# Altium integrated library SparkFun-RF.Library.IntLib: 74 symbols (part 2 of 2)
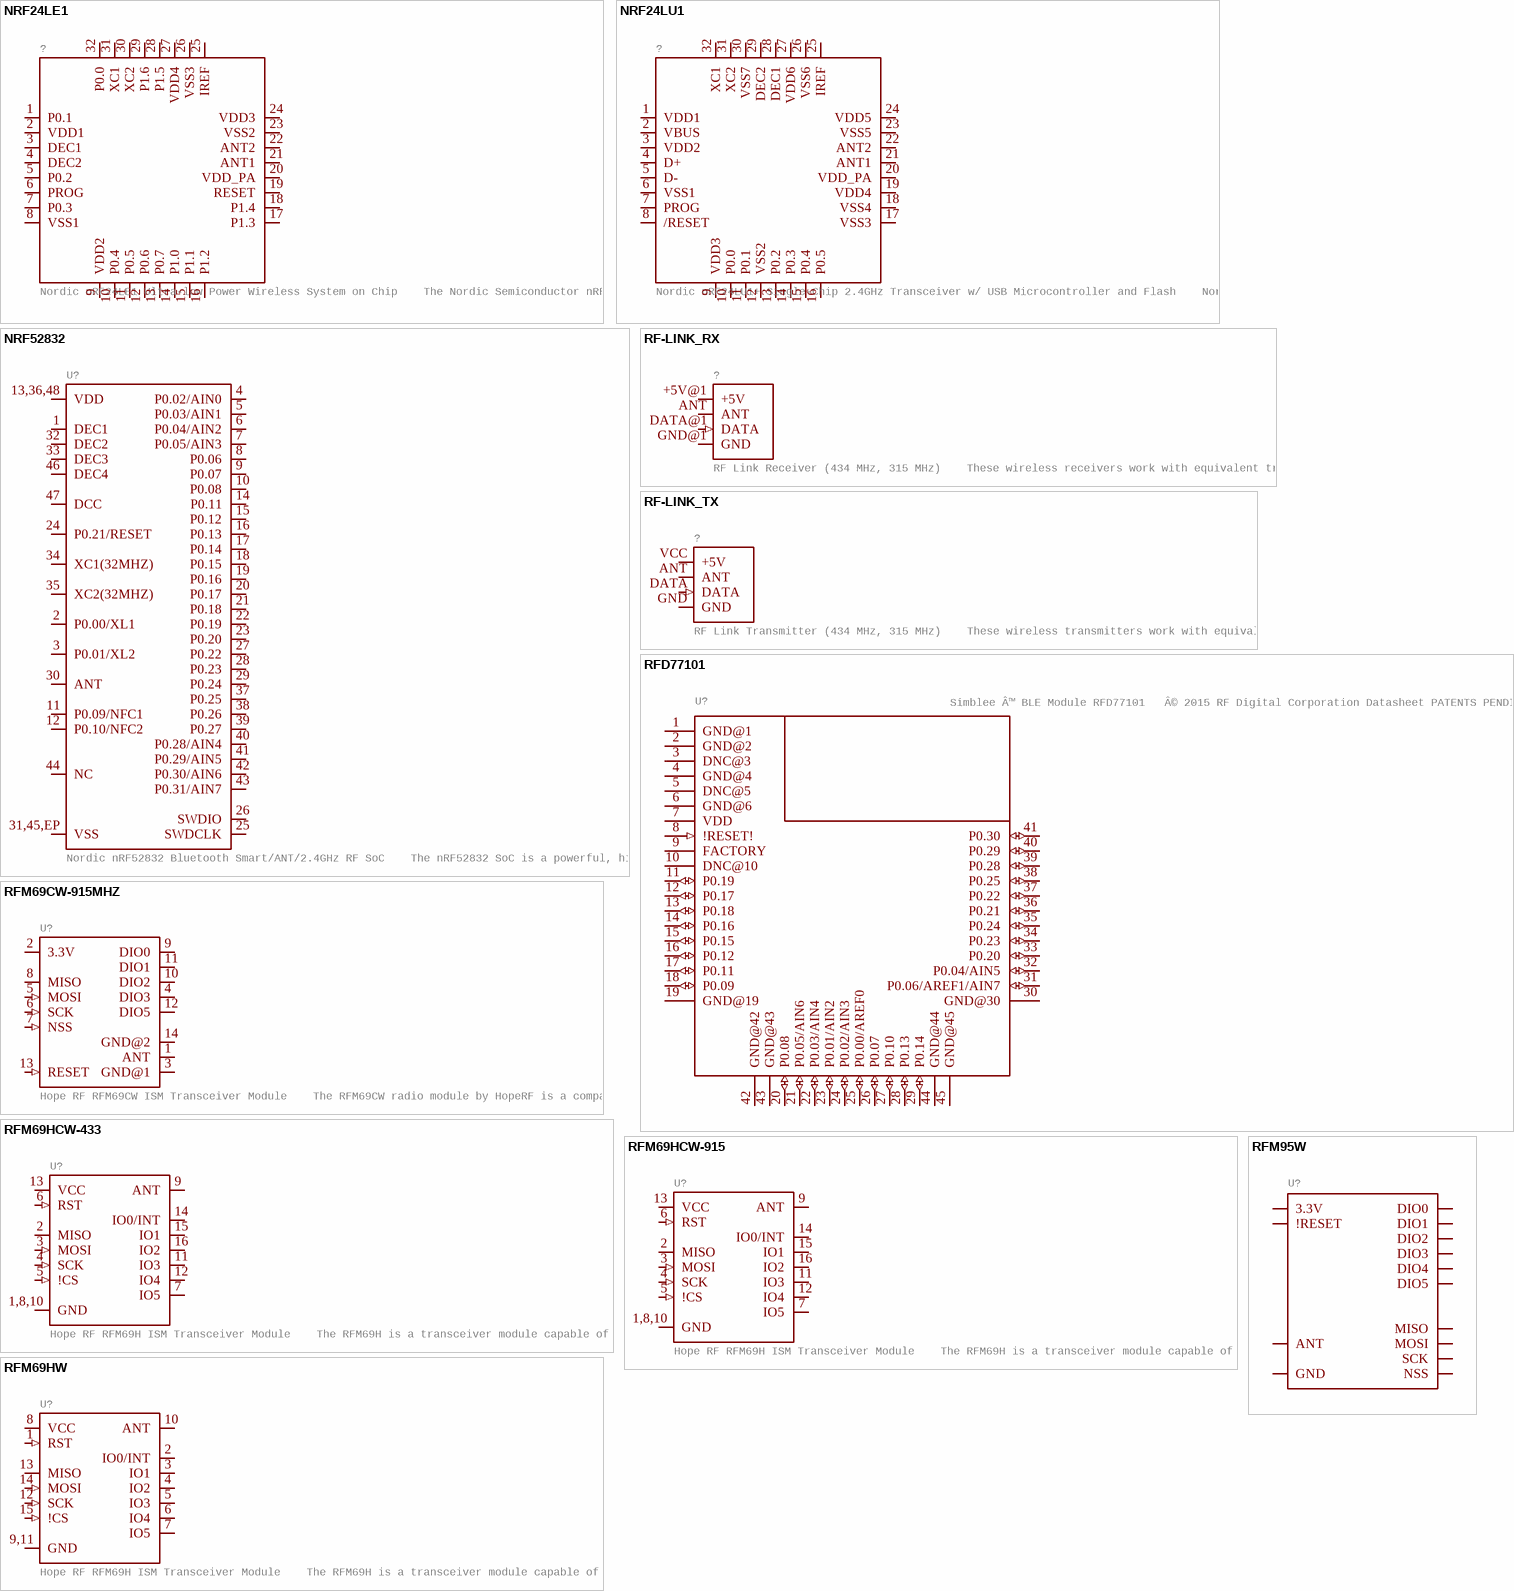
[diagram p8: symbols NRF24LE1 to RFM95W]

## RFD77101
designator U?, comment Simblee Â™ BLE Module RFD77101   Â© 2015 RF Digital Corporation Datasheet PATENTS PENDING 04.01.2015   Bluetooth Smart radio transceiver, ARM Cortex M0 microcontroller.   128kB Flash, 24kB RAM, no EEPROM   Arduino-compatible.    SparkFun Products: Simblee BLE Module - RFD77101  SparkFun Simblee BLE Breakout - RFD77101
GateName_1: G$1; PROD_ID: COMP-13237; SF_ID: WRL-13808; SymbolName_1: RFD77101; LibraryName: SparkFun-RF; DeviceSetName: RFD77101; Package: RFD77101
footprint RFD77101
pins: 1 GND@1 (power), 2 GND@2 (power), 3 DNC@3, 4 GND@4 (power), 5 DNC@5, 6 GND@6 (power), 7 VDD (power), 8 !RESET! (in), 9 FACTORY, 10 DNC@10, 11 P0.19 (io), 12 P0.17 (io), 13 P0.18 (io), 14 P0.16 (io), 15 P0.15 (io), 16 P0.12 (io), 17 P0.11 (io), 18 P0.09 (io), 19 GND@19 (power), 20 P0.08 (io), 21 P0.05/AIN6 (io), 22 P0.03/AIN4 (io), 23 P0.01/AIN2 (io), 24 P0.02/AIN3 (io), 25 P0.00/AREF0 (io), 26 P0.07 (io), 27 P0.10 (io), 28 P0.13 (io), 29 P0.14 (io), 30 GND@30 (power), 31 P0.06/AREF1/AIN7 (io), 32 P0.04/AIN5 (io), 33 P0.20 (io), 34 P0.23 (io), 35 P0.24 (io), 36 P0.21 (io), 37 P0.22 (io), 38 P0.25 (io), 39 P0.28 (io), 40 P0.29 (io), 41 P0.30 (io), 42 GND@42 (power), 43 GND@43 (power), 44 GND@44 (power), 45 GND@45 (power)

## RFM69CW-915MHZ
designator U?, comment Hope RF RFM69CW ISM Transceiver Module    The RFM69CW radio module by HopeRF is a compact, powerful radio transceiver module for swapping data packets in the 868 MHz ISM band, using standard and enhanced FSK modulation. The radio is great for sub-compact designs; just 4mm of mounted height from using an SMD precision crystal.   Datasheet
GateName_1: G$1; SymbolName_1: RFM69; DeviceName: CW-915MHZ; PROD_ID: IC-11996; LibraryName: SparkFun-RF; DeviceSetName: RFM69; Package: RFM69CW-XXXS2
footprint RFM69CW-XXXS2
pins: 1 ANT, 2 3.3V (power), 3 GND@1 (power), 4 DIO3 (io), 5 MOSI (in), 6 SCK (in), 7 NSS (in), 8 MISO (io), 9 DIO0 (io), 10 DIO2 (io), 11 DIO1 (io), 12 DIO5 (io), 13 RESET (in), 14 GND@2 (power)

## RFM69HCW-433
designator U?, comment Hope RF RFM69H ISM Transceiver Module    The RFM69H is a transceiver module capable of operation over a wide frequency range, including the 315,433,868 and 915MHz license-free ISM (Industry Scientific and Medical) frequency bands. All major RF communication parameters are programmable and most of them  can  be  dynamically set.  The  RFM69H  offers  the unique advantage of programmable narrow-band and wide- band  communication modes. The RFM69H is optimized for low power consumption while offering high RF output power and channelized operation.Compliance  ETSI and FCC regulations.    Datasheet   SparkFun Products RFM69HCW Wireless Transceiver - 915MHz (COM-13909)  RFM69HCW Wireless Transceiver - 434MHz (COM-13910)  SparkFun RFM69 Breakout (915MHz) (WRL-12775)  SparkFun RFM69 Breakout (434MHz) (WRL-12823)
GateName_1: U1; DeviceName: CW-433; PROD_ID: IC-12053; SymbolName_1: RFM69H; LibraryName: SparkFun-RF; DeviceSetName: RFM69H; Package: RFM69HCW-XXXS2
footprint RFM69HCW-XXXS2
pins: 1,8,10 GND (power), 2 MISO (io), 3 MOSI (in), 4 SCK (in), 5 !CS (in), 6 RST (in), 7 IO5 (io), 9 ANT, 11 IO3 (io), 12 IO4 (io), 13 VCC (power), 14 IO0/INT (io), 15 IO1 (io), 16 IO2 (io)

## RFM69HCW-915
designator U?, comment Hope RF RFM69H ISM Transceiver Module    The RFM69H is a transceiver module capable of operation over a wide frequency range, including the 315,433,868 and 915MHz license-free ISM (Industry Scientific and Medical) frequency bands. All major RF communication parameters are programmable and most of them  can  be  dynamically set.  The  RFM69H  offers  the unique advantage of programmable narrow-band and wide- band  communication modes. The RFM69H is optimized for low power consumption while offering high RF output power and channelized operation.Compliance  ETSI and FCC regulations.    Datasheet   SparkFun Products RFM69HCW Wireless Transceiver - 915MHz (COM-13909)  RFM69HCW Wireless Transceiver - 434MHz (COM-13910)  SparkFun RFM69 Breakout (915MHz) (WRL-12775)  SparkFun RFM69 Breakout (434MHz) (WRL-12823)
GateName_1: U1; DeviceName: CW-915; PROD_ID: IC-11997; SymbolName_1: RFM69H; LibraryName: SparkFun-RF; DeviceSetName: RFM69H; Package: RFM69HCW-XXXS2
footprint RFM69HCW-XXXS2
pins: 1,8,10 GND (power), 2 MISO (io), 3 MOSI (in), 4 SCK (in), 5 !CS (in), 6 RST (in), 7 IO5 (io), 9 ANT, 11 IO3 (io), 12 IO4 (io), 13 VCC (power), 14 IO0/INT (io), 15 IO1 (io), 16 IO2 (io)

## RFM69HW
designator U?, comment Hope RF RFM69H ISM Transceiver Module    The RFM69H is a transceiver module capable of operation over a wide frequency range, including the 315,433,868 and 915MHz license-free ISM (Industry Scientific and Medical) frequency bands. All major RF communication parameters are programmable and most of them  can  be  dynamically set.  The  RFM69H  offers  the unique advantage of programmable narrow-band and wide- band  communication modes. The RFM69H is optimized for low power consumption while offering high RF output power and channelized operation.Compliance  ETSI and FCC regulations.    Datasheet   SparkFun Products RFM69HCW Wireless Transceiver - 915MHz (COM-13909)  RFM69HCW Wireless Transceiver - 434MHz (COM-13910)  SparkFun RFM69 Breakout (915MHz) (WRL-12775)  SparkFun RFM69 Breakout (434MHz) (WRL-12823)
GateName_1: U1; DeviceName: W; SymbolName_1: RFM69H; LibraryName: SparkFun-RF; DeviceSetName: RFM69H; Package: RFM69W-XXXS2
footprint RFM69W-XXXS2
pins: 1 RST (in), 2 IO0/INT (io), 3 IO1 (io), 4 IO2 (io), 5 IO3 (io), 6 IO4 (io), 7 IO5 (io), 8 VCC (power), 9,11 GND (power), 10 ANT, 12 SCK (in), 13 MISO (io), 14 MOSI (in), 15 !CS (in)

## RFM95W
designator U?, comment RFM95/96/97/98    The RFM95/96/97/98(W) transceivers feature the LoRaTM    long range modem that provides ultra-long range spread spectrum communication and high interference immunity whilst minimising current consumption.    These devices also support high performance (G)FSK modes for systems including WMBus, IEEE802.15.4g. The RFM95/96/97/98(W) deliver exceptional phase noise, selectivity, receiver linearity and IIP3 for significantly lower current consumption than competing devices   Datasheet  (value not drawn)
GateName_1: G$1; SymbolName_1: RFM95W; PROD_ID: IC-13959; LibraryName: SparkFun-RF; DeviceSetName: RFM95W; Package: RFM95/96/97/98W
footprint RFM95/96/97/98W
pins: 3.3V (io), !RESET (io), ANT (io), DIO0 (io), DIO1 (io), DIO2 (io), DIO3 (io), DIO4 (io), DIO5 (io), GND@1-3 GND (io), MISO (io), MOSI (io), NSS (io), SCK (io)

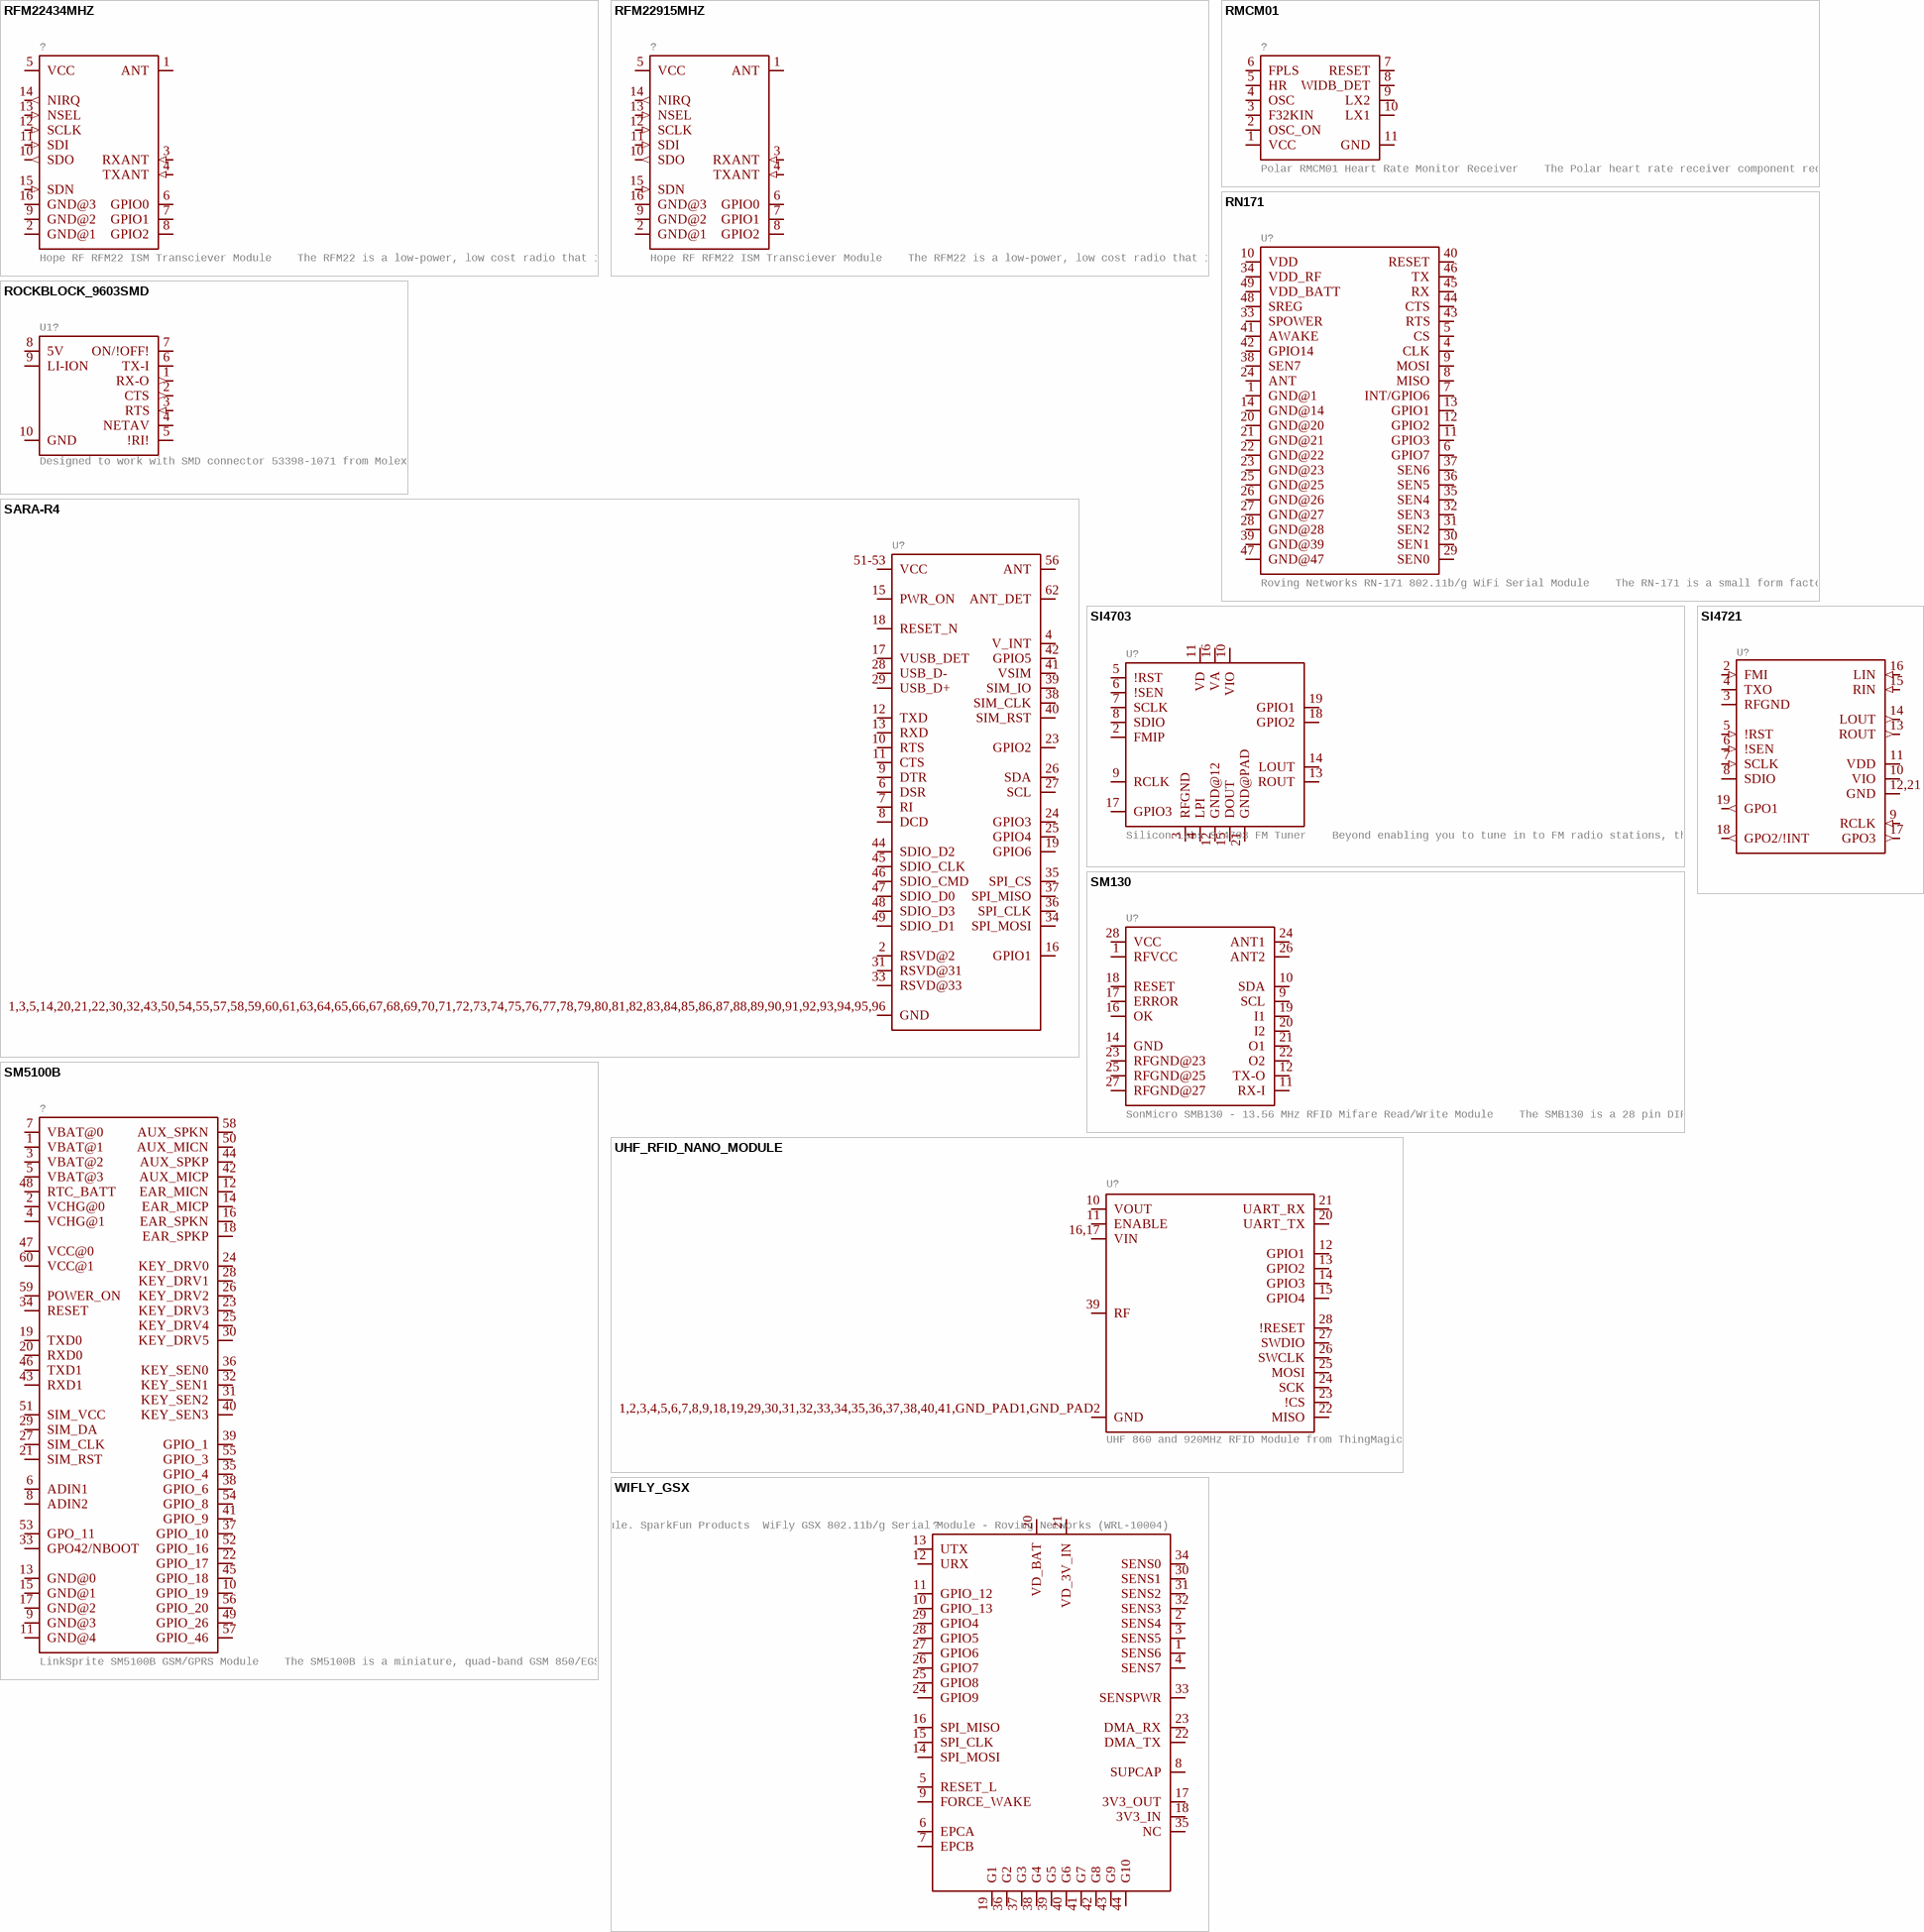
[diagram p6: symbols RFM22434MHZ to WIFLY_GSX]

## RFM22434MHZ
designator ?, comment Hope RF RFM22 ISM Transciever Module    The RFM22 is a low-power, low cost radio that is capable of operating in the 434MHz and 900MHz open bands. It's frequency is software defined and there are some very good libraries written for it.   SparkFun Products SparkFun RFM22 Shield - 434MHz (DEV-11018)
GateName_1: G$1; PROD_ID: IC-10007; SF_ID: WRL-10153; SymbolName_1: RFM22; DeviceName: 434MHZ; LibraryName: SparkFun-RF; DeviceSetName: RFM22; Package: RFM22-XXX-S2
footprint RFM22-XXX-S2
pins: 1 ANT (io), 2 GND@1 (power), 3 RXANT (in), 4 TXANT (in), 5 VCC (io), 6 GPIO0 (io), 7 GPIO1 (io), 8 GPIO2 (io), 9 GND@2 (power), 10 SDO (out), 11 SDI (in), 12 SCLK (in), 13 NSEL (in), 14 NIRQ (out), 15 SDN (in), 16 GND@3 (power)

## RFM22915MHZ
designator ?, comment Hope RF RFM22 ISM Transciever Module    The RFM22 is a low-power, low cost radio that is capable of operating in the 434MHz and 900MHz open bands. It's frequency is software defined and there are some very good libraries written for it.   SparkFun Products SparkFun RFM22 Shield - 434MHz (DEV-11018)
GateName_1: G$1; DeviceName: 915MHZ; PROD_ID: IC-11750; SF_ID: WRL-12030; SymbolName_1: RFM22; LibraryName: SparkFun-RF; DeviceSetName: RFM22; Package: RFM22-XXX-S2
footprint RFM22-XXX-S2
pins: 1 ANT (io), 2 GND@1 (power), 3 RXANT (in), 4 TXANT (in), 5 VCC (io), 6 GPIO0 (io), 7 GPIO1 (io), 8 GPIO2 (io), 9 GND@2 (power), 10 SDO (out), 11 SDI (in), 12 SCLK (in), 13 NSEL (in), 14 NIRQ (out), 15 SDN (in), 16 GND@3 (power)

## RMCM01
designator ?, comment Polar RMCM01 Heart Rate Monitor Receiver    The Polar heart rate receiver component receiver wirelessly receives the heart rate signal from Polar transmitter belt. The complete heart rate measurement system consists of three different parts; transmitter, receiver and electronics and/or display device that is outputting the heart rate value.   SparkFun Products Polar Heart Rate Monitor Interface (SEN-08661)
GateName_1: G$1; PROD_ID: COMP-08853; SymbolName_1: RMCM01; LibraryName: SparkFun-RF; DeviceSetName: RMCM01; Package: RMCM01
footprint RMCM01
pins: 1 VCC (io), 2 OSC_ON (io), 3 F32KIN (io), 4 OSC (io), 5 HR (io), 6 FPLS (io), 7 RESET (io), 8 WIDB_DET (io), 9 LX2 (io), 10 LX1 (io), 11 GND (io)

## RN171
designator U?, comment Roving Networks RN-171 802.11b/g WiFi Serial Module    The RN-171 is a small form factor, ultra-low power embedded TCP/IP module. The RN-171 is a standalone, complete TCP/IP wireless networking module. Due to its small form factor and extremely low power consumption, it is perfect for mobile wireless applications such as asset monitoring, sensors, and portable battery operated devices.   SparkFun Products WiFly RN-171 802.11b/g Serial Module (WRL-11049)
GateName_1: G$1; SymbolName_1: RN171; PROD_ID: IC-11000; LibraryName: SparkFun-RF; DeviceSetName: RN171; Package: RN171; SF_ID: WRL-11049
footprint RN171
pins: 1 GND@1 (io), 4 CLK (io), 5 CS (io), 6 GPIO7 (io), 7 INT/GPIO6 (io), 8 MISO (io), 9 MOSI (io), 10 VDD (io), 11 GPIO3 (io), 12 GPIO2 (io), 13 GPIO1 (io), 14 GND@14 (io), 20 GND@20 (io), 21 GND@21 (io), 22 GND@22 (io), 23 GND@23 (io), 24 ANT (io), 25 GND@25 (io), 26 GND@26 (io), 27 GND@27 (io), 28 GND@28 (io), 29 SEN0 (io), 30 SEN1 (io), 31 SEN2 (io), 32 SEN3 (io), 33 SPOWER (io), 34 VDD_RF (io), 35 SEN4 (io), 36 SEN5 (io), 37 SEN6 (io), 38 SEN7 (io), 39 GND@39 (io), 40 RESET (io), 41 AWAKE (io), 42 GPIO14 (io), 43 RTS (io), 44 CTS (io), 45 RX (io), 46 TX (io), 47 GND@47 (io), 48 SREG (io), 49 VDD_BATT (io)

## ROCKBLOCK_9603SMD
designator U1?, comment Designed to work with SMD connector 53398-1071 from Molex.
GateName_1: U1; SymbolName_1: ROCKBLOCK_9603; PROD_ID: CONN-14655; DeviceName: SMD; LibraryName: SparkFun-RF; DeviceSetName: ROCKBLOCK_9603; Package: 1X10-1.25MM-SMD
footprint 1X10-1.25MM-SMD
pins: 1 RX-O (out), 2 CTS (out), 3 RTS (in), 4 NETAV (io), 5 !RI! (io), 6 TX-I (io), 7 ON/!OFF! (io), 8 5V (io), 9 LI-ION (io), 10 GND (io)

## SARA-R4
designator U?
GateName_1: G$1; SymbolName_1: SARA-R4; PROD_ID: IC-14085; LibraryName: SparkFun-RF; DeviceSetName: SARA-R4; Package: SARA-LGA
footprint SARA-LGA
pins: 1,3,5,14,20,21,22,30,32,43,50,54,55,57,58,59,60,61,63,64,65,66,67,68,69,70,71,72,73,74,75,76,77,78,79,80,81,82,83,84,85,86,87,88,89,90,91,92,93,94,95,96 GND (io), 2 RSVD@2 (io), 4 V_INT (io), 6 DSR (io), 7 RI (io), 8 DCD (io), 9 DTR (io), 10 RTS (io), 11 CTS (io), 12 TXD (io), 13 RXD (io), 15 PWR_ON (io), 16 GPIO1 (io), 17 VUSB_DET (io), 18 RESET_N (io), 19 GPIO6 (io), 23 GPIO2 (io), 24 GPIO3 (io), 25 GPIO4 (io), 26 SDA (io), 27 SCL (io), 28 USB_D- (io), 29 USB_D+ (io), 31 RSVD@31 (io), 33 RSVD@33 (io), 34 SPI_MOSI (io), 35 SPI_CS (io), 36 SPI_CLK (io), 37 SPI_MISO (io), 38 SIM_CLK (io), 39 SIM_IO (io), 40 SIM_RST (io), 41 VSIM (io), 42 GPIO5 (io), 44 SDIO_D2 (io), 45 SDIO_CLK (io), 46 SDIO_CMD (io), 47 SDIO_D0 (io), 48 SDIO_D3 (io), 49 SDIO_D1 (io), 51-53 VCC (io), 56 ANT (io), 62 ANT_DET (io)

## SI4703
designator U?, comment Silicon Labs Si4703 FM Tuner    Beyond enabling you to tune in to FM radio stations, the Si4703 is also capable of detecting and processing both Radio Data Service (RDS) and Radio Broadcast Data Service (RBDS) information. The Si4703 even does a very good job of filtering and carrier detection. It also enables data such as the station ID and song name to be displayed to the user.   SparkFun Products SparkFun FM Tuner Evaluation Board - Si4703 (WRL-12938)  SparkFun FM Tuner Basic Breakout - Si4703 (WRL-11083)  FabFM Radio Kit  (KIT-11043)
GateName_1: G$1; SymbolName_1: SI470X; PROD_ID: IC-10150; LibraryName: SparkFun-RF; DeviceSetName: SI4703; Package: QFN-20-3X3MM
footprint QFN-20-3X3MM
pins: 2 FMIP (io), 3 RFGND (io), 4 LPI (io), 5 !RST (io), 6 !SEN (io), 7 SCLK (io), 8 SDIO (io), 9 RCLK (io), 10 VIO (io), 11 VD (io), 12 GND@12 (io), 13 ROUT (io), 14 LOUT (io), 15 DOUT (io), 16 VA (io), 17 GPIO3 (io), 18 GPIO2 (io), 19 GPIO1 (io), 21 GND@PAD (io)

## SI4721
designator U?
GateName_1: G$1; SymbolName_1: SI472X; DeviceSetName: SI4721; LibraryName: SparkFun-RF; Package: QFN-20-3X3MM
footprint QFN-20-3X3MM
pins: 2 FMI (in), 3 RFGND (power), 4 TXO (io), 5 !RST (in), 6 !SEN (in), 7 SCLK (in), 8 SDIO (io), 9 RCLK (in), 10 VIO (power), 11 VDD (power), 12,21 GND (power), 13 ROUT (out), 14 LOUT (out), 15 RIN (in), 16 LIN (in), 17 GPO3 (out), 18 GPO2/!INT (out), 19 GPO1 (out)

## SM130
designator U?, comment SonMicro SMB130 - 13.56 MHz RFID Mifare Read/Write Module    The SMB130 is a 28 pin DIP module that includes all necessary components for a 13.56 MHz RFID MIFAREÂ®, aside from a PCB antenna. SparkFun Products  RFID Module - SM130 MIFAREÂ® (13.56 MHz)  (SEN-10126)
GateName_1: G$1; PROD_ID: LPA-12905; SymbolName_1: SM130; LibraryName: SparkFun-RF; DeviceSetName: SM130; Package: SM130
footprint SM130
pins: 1 RFVCC (io), 9 SCL (io), 10 SDA (io), 11 RX-I (io), 12 TX-O (io), 14 GND (io), 16 OK (io), 17 ERROR (io), 18 RESET (io), 19 I1 (io), 20 I2 (io), 21 O1 (io), 22 O2 (io), 23 RFGND@23 (io), 24 ANT1 (io), 25 RFGND@25 (io), 26 ANT2 (io), 27 RFGND@27 (io), 28 VCC (io)

## SM5100B
designator ?, comment LinkSprite SM5100B GSM/GPRS Module    The SM5100B is a miniature, quad-band GSM 850/EGSM 900/DCS 1800/PCS 1900 module, which can be integrated into a great number of wireless projects. You can use this module to accomplish almost anything a normal cell phone can - SMS text messages, GSM/GPRS, TCP/IP, and more! SparkFun Products  GSM/GPRS Module - SM5100B (CEL-09533)
GateName_1: G$1; PROD_ID: CONN-09315; SymbolName_1: SM5100B; LibraryName: SparkFun-RF; DeviceSetName: SM5100B; Package: SM5100B
footprint SM5100B
pins: 1 VBAT@1 (io), 2 VCHG@0 (io), 3 VBAT@2 (io), 4 VCHG@1 (io), 5 VBAT@3 (io), 6 ADIN1 (io), 7 VBAT@0 (io), 8 ADIN2 (io), 9 GND@3 (io), 10 GPIO_19 (io), 11 GND@4 (io), 12 EAR_MICN (io), 13 GND@0 (io), 14 EAR_MICP (io), 15 GND@1 (io), 16 EAR_SPKN (io), 17 GND@2 (io), 18 EAR_SPKP (io), 19 TXD0 (io), 20 RXD0 (io), 21 SIM_RST (io), 22 GPIO_17 (io), 23 KEY_DRV3 (io), 24 KEY_DRV0 (io), 25 KEY_DRV4 (io), 26 KEY_DRV2 (io), 27 SIM_CLK (io), 28 KEY_DRV1 (io), 29 SIM_DA (io), 30 KEY_DRV5 (io), 31 KEY_SEN2 (io), 32 KEY_SEN1 (io), 33 GPO42/NBOOT (io), 34 RESET (io), 35 GPIO_4 (io), 36 KEY_SEN0 (io), 37 GPIO_10 (io), 38 GPIO_6 (io), 39 GPIO_1 (io), 40 KEY_SEN3 (io), 41 GPIO_9 (io), 42 AUX_MICP (io), 43 RXD1 (io), 44 AUX_SPKP (io), 45 GPIO_18 (io), 46 TXD1 (io), 47 VCC@0 (io), 48 RTC_BATT (io), 49 GPIO_26 (io), 50 AUX_MICN (io), 51 SIM_VCC (io), 52 GPIO_16 (io), 53 GPO_11 (io), 54 GPIO_8 (io), 55 GPIO_3 (io), 56 GPIO_20 (io), 57 GPIO_46 (io), 58 AUX_SPKN (io), 59 POWER_ON (io), 60 VCC@1 (io)

## UHF_RFID_NANO_MODULE
designator U?, comment UHF 860 and 920MHz RFID Module from ThingMagic
GateName_1: U1; SymbolName_1: UHF_RFID_NANO_MODULE; PROD_ID: IC-13540; LibraryName: SparkFun-RF; DeviceSetName: UHF_RFID_NANO_MODULE; Package: NANO_MODULE
footprint NANO_MODULE
pins: 1,2,3,4,5,6,7,8,9,18,19,29,30,31,32,33,34,35,36,37,38,40,41,GND_PAD1,GND_PAD2 GND (io), 10 VOUT (io), 11 ENABLE (io), 12 GPIO1 (io), 13 GPIO2 (io), 14 GPIO3 (io), 15 GPIO4 (io), 16,17 VIN (io), 20 UART_TX (io), 21 UART_RX (io), 22 MISO (io), 23 !CS (io), 24 SCK (io), 25 MOSI (io), 26 SWCLK (io), 27 SWDIO (io), 28 !RESET (io), 39 RF (io)

## WIFLY_GSX
designator ?, comment Roving Networks WiFly GSX (RN-131C) Wi-Fi Module    The WiFly GSX (RN-131C) module is a complete ultra low power embedded TCP/IP solution. The WiFly GSX module is a stand alone, embedded wireless 802.11b/g networking module. SparkFun Products  WiFly GSX 802.11b/g Serial Module - Roving Networks (WRL-10004)
GateName_1: G$1; SymbolName_1: WIFLY_GSX; PROD_ID: IC-12671; SF_ID: WRL-13525; LibraryName: SparkFun-RF; DeviceSetName: WIFLY_GSX; Package: WIFLY_GSX
footprint WIFLY_GSX
pins: 1 SENS6 (io), 2 SENS4 (io), 3 SENS5 (io), 4 SENS7 (io), 5 RESET_L (io), 6 EPCA (io), 7 EPCB (io), 8 SUPCAP (io), 9 FORCE_WAKE (io), 10 GPIO_13 (io), 11 GPIO_12 (io), 12 URX (io), 13 UTX (io), 14 SPI_MOSI (io), 15 SPI_CLK (io), 16 SPI_MISO (io), 17 3V3_OUT (io), 18 3V3_IN (io), 19 G1 (io), 20 VD_BAT (io), 21 VD_3V_IN (io), 22 DMA_TX (io), 23 DMA_RX (io), 24 GPIO9 (io), 25 GPIO8 (io), 26 GPIO7 (io), 27 GPIO6 (io), 28 GPIO5 (io), 29 GPIO4 (io), 30 SENS1 (io), 31 SENS2 (io), 32 SENS3 (io), 33 SENSPWR (io), 34 SENS0 (io), 35 NC (io), 36 G2 (io), 37 G3 (io), 38 G4 (io), 39 G5 (io), 40 G6 (io), 41 G7 (io), 42 G8 (io), 43 G9 (io), 44 G10 (io)

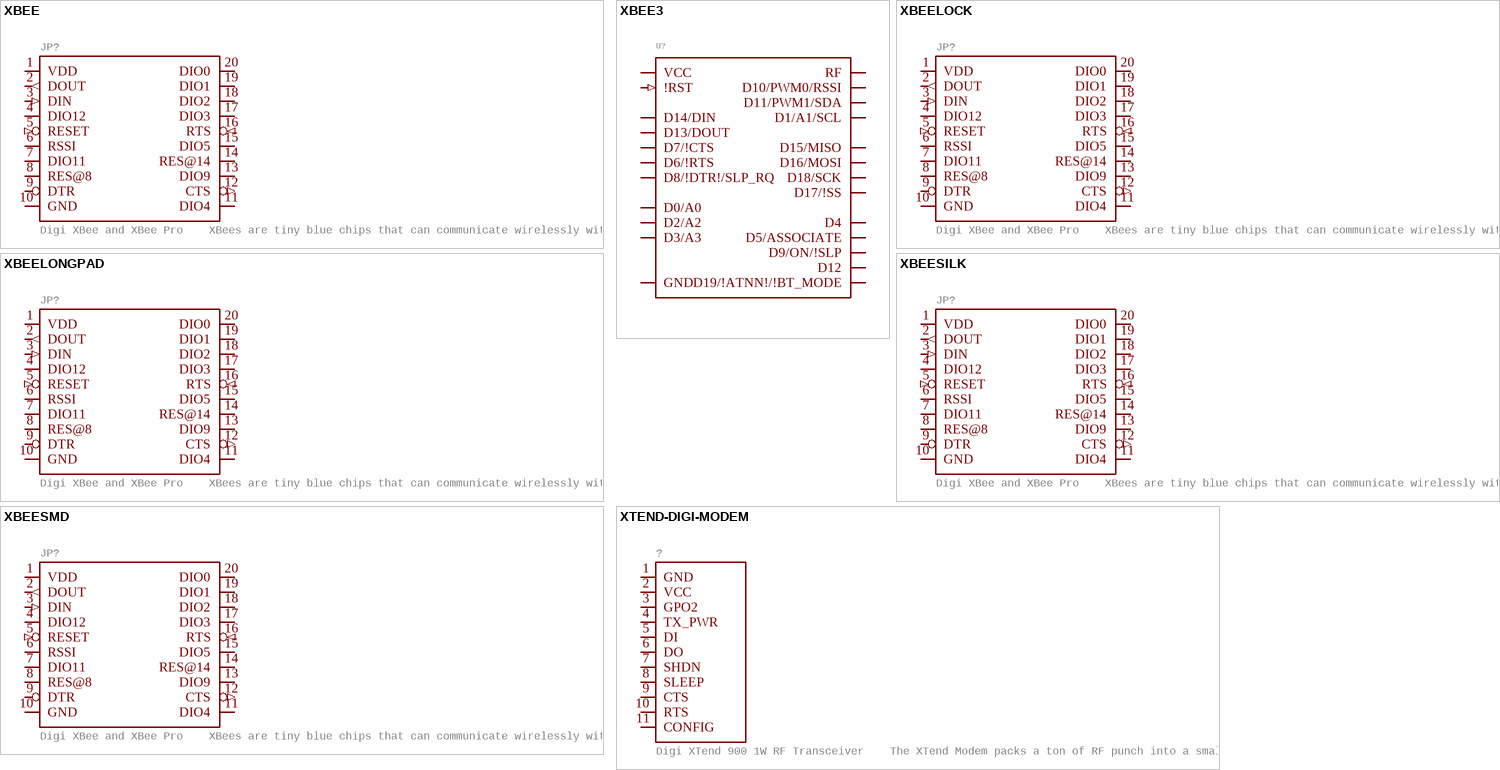
[diagram p7: symbols XBEE to XTEND-DIGI-MODEM]

## XBEE
designator JP?, comment Digi XBee and XBee Pro    XBees are tiny blue chips that can communicate wirelessly with each other. They can do simple things, like replacing a couple of wires in serial communication, which is nice when you want to make a remote for your paintball vehicle. SparkFun Products  SparkFun XBee Buying Guide  SparkFun XBee Explorer USB (WRL-11812)  Breakout Board for XBee Module (WRL-8276)  SparkFun XBee Explorer Regulated (WRL-11373)  SparkFun XBee Explorer Dongle (WRL-11697)  SparkFun XBee Shield (WRL-12847)  SparkFun XBee Explorer Serial (WRL-13225)
GateName_1: G$1; SymbolName_1: XBEE; LibraryName: SparkFun-RF; DeviceSetName: XBEE; Package: XBEE
footprint XBEE
pins: 1 VDD (power), 2 DOUT (out), 3 DIN (in), 4 DIO12 (io), 5 RESET (in), 6 RSSI (io), 7 DIO11 (io), 8 RES@8 (io), 9 DTR (io), 10 GND (power), 11 DIO4 (io), 12 CTS (out), 13 DIO9 (io), 14 RES@14 (io), 15 DIO5 (io), 16 RTS (in), 17 DIO3 (io), 18 DIO2 (io), 19 DIO1 (io), 20 DIO0 (io)

## XBEE3
designator U?
GateName_1: G$1; SymbolName_1: XBEE3; PROD_ID: WRL-14444/ WRL-14467; LibraryName: SparkFun-RF; DeviceSetName: XBEE3; Package: XBEE3-SMD
footprint XBEE3-SMD
pins: P$1,10,12,21,32,34 GND (io), P$2 VCC (io), P$3 D13/DOUT (io), P$4 D14/DIN (io), P$5 D12 (io), P$6 !RST (in), P$7 D10/PWM0/RSSI (io), P$8 D11/PWM1/SDA (io), P$9 D8/!DTR!/SLP_RQ (io), P$11 D19/!ATNN!/!BT_MODE (io), P$13 D18/SCK (io), P$14 D17/!SS (io), P$15 D16/MOSI (io), P$16 D15/MISO (io), P$23 D4 (io), P$24 D7/!CTS (io), P$25 D9/ON/!SLP (io), P$26 D5/ASSOCIATE (io), P$27 D6/!RTS (io), P$28 D3/A3 (io), P$29 D2/A2 (io), P$30 D1/A1/SCL (io), P$31 D0/A0 (io), P$33 RF (io)

## XBEELOCK
designator JP?, comment Digi XBee and XBee Pro    XBees are tiny blue chips that can communicate wirelessly with each other. They can do simple things, like replacing a couple of wires in serial communication, which is nice when you want to make a remote for your paintball vehicle. SparkFun Products  SparkFun XBee Buying Guide  SparkFun XBee Explorer USB (WRL-11812)  Breakout Board for XBee Module (WRL-8276)  SparkFun XBee Explorer Regulated (WRL-11373)  SparkFun XBee Explorer Dongle (WRL-11697)  SparkFun XBee Shield (WRL-12847)  SparkFun XBee Explorer Serial (WRL-13225)
GateName_1: G$1; DeviceName: LOCK; SymbolName_1: XBEE; LibraryName: SparkFun-RF; DeviceSetName: XBEE; Package: XBEE-LOCK
footprint XBEE-LOCK
pins: 1 VDD (power), 2 DOUT (out), 3 DIN (in), 4 DIO12 (io), 5 RESET (in), 6 RSSI (io), 7 DIO11 (io), 8 RES@8 (io), 9 DTR (io), 10 GND (power), 11 DIO4 (io), 12 CTS (out), 13 DIO9 (io), 14 RES@14 (io), 15 DIO5 (io), 16 RTS (in), 17 DIO3 (io), 18 DIO2 (io), 19 DIO1 (io), 20 DIO0 (io)

## XBEELONGPAD
designator JP?, comment Digi XBee and XBee Pro    XBees are tiny blue chips that can communicate wirelessly with each other. They can do simple things, like replacing a couple of wires in serial communication, which is nice when you want to make a remote for your paintball vehicle. SparkFun Products  SparkFun XBee Buying Guide  SparkFun XBee Explorer USB (WRL-11812)  Breakout Board for XBee Module (WRL-8276)  SparkFun XBee Explorer Regulated (WRL-11373)  SparkFun XBee Explorer Dongle (WRL-11697)  SparkFun XBee Shield (WRL-12847)  SparkFun XBee Explorer Serial (WRL-13225)
GateName_1: G$1; DeviceName: LONGPAD; SymbolName_1: XBEE; LibraryName: SparkFun-RF; DeviceSetName: XBEE; Package: XBEE-LONGPAD
footprint XBEE-LONGPAD
pins: 1 VDD (power), 2 DOUT (out), 3 DIN (in), 4 DIO12 (io), 5 RESET (in), 6 RSSI (io), 7 DIO11 (io), 8 RES@8 (io), 9 DTR (io), 10 GND (power), 11 DIO4 (io), 12 CTS (out), 13 DIO9 (io), 14 RES@14 (io), 15 DIO5 (io), 16 RTS (in), 17 DIO3 (io), 18 DIO2 (io), 19 DIO1 (io), 20 DIO0 (io)

## XBEESILK
designator JP?, comment Digi XBee and XBee Pro    XBees are tiny blue chips that can communicate wirelessly with each other. They can do simple things, like replacing a couple of wires in serial communication, which is nice when you want to make a remote for your paintball vehicle. SparkFun Products  SparkFun XBee Buying Guide  SparkFun XBee Explorer USB (WRL-11812)  Breakout Board for XBee Module (WRL-8276)  SparkFun XBee Explorer Regulated (WRL-11373)  SparkFun XBee Explorer Dongle (WRL-11697)  SparkFun XBee Shield (WRL-12847)  SparkFun XBee Explorer Serial (WRL-13225)
GateName_1: G$1; DeviceName: SILK; SymbolName_1: XBEE; LibraryName: SparkFun-RF; DeviceSetName: XBEE; Package: XBEE-SILK
footprint XBEE-SILK
pins: 1 VDD (power), 2 DOUT (out), 3 DIN (in), 4 DIO12 (io), 5 RESET (in), 6 RSSI (io), 7 DIO11 (io), 8 RES@8 (io), 9 DTR (io), 10 GND (power), 11 DIO4 (io), 12 CTS (out), 13 DIO9 (io), 14 RES@14 (io), 15 DIO5 (io), 16 RTS (in), 17 DIO3 (io), 18 DIO2 (io), 19 DIO1 (io), 20 DIO0 (io)

## XBEESMD
designator JP?, comment Digi XBee and XBee Pro    XBees are tiny blue chips that can communicate wirelessly with each other. They can do simple things, like replacing a couple of wires in serial communication, which is nice when you want to make a remote for your paintball vehicle. SparkFun Products  SparkFun XBee Buying Guide  SparkFun XBee Explorer USB (WRL-11812)  Breakout Board for XBee Module (WRL-8276)  SparkFun XBee Explorer Regulated (WRL-11373)  SparkFun XBee Explorer Dongle (WRL-11697)  SparkFun XBee Shield (WRL-12847)  SparkFun XBee Explorer Serial (WRL-13225)
GateName_1: G$1; DeviceName: SMD; PROD_ID: CONN-09042; SymbolName_1: XBEE; LibraryName: SparkFun-RF; DeviceSetName: XBEE; Package: XBEE-SMD
footprint XBEE-SMD
pins: 1 VDD (power), 2 DOUT (out), 3 DIN (in), 4 DIO12 (io), 5 RESET (in), 6 RSSI (io), 7 DIO11 (io), 8 RES@8 (io), 9 DTR (io), 10 GND (power), 11 DIO4 (io), 12 CTS (out), 13 DIO9 (io), 14 RES@14 (io), 15 DIO5 (io), 16 RTS (in), 17 DIO3 (io), 18 DIO2 (io), 19 DIO1 (io), 20 DIO0 (io)

## XTEND-DIGI-MODEM
designator ?, comment Digi XTend 900 1W RF Transceiver    The XTend Modem packs a ton of RF punch into a small, low-power, easy-to-use, and reliable module. Outdoors, with line-of-sight, this module can communicate at up to 40 miles; indoors it can still do up to 3000ft. The module transfers a standard asynchronous serial data stream, operates within the ISM 900MHz frequency band and sustains up to 115.2kbps data throughput. The module comes with an attached RPSMA antenna connector. SparkFun Products  XTend 900 1W RPSMA - 40 Mile Range (WRL-09411)
GateName_1: G$1; SymbolName_1: XTEND-DIGI-MODEM; LibraryName: SparkFun-RF; DeviceSetName: XTEND-DIGI-MODEM; Package: XTEND-DIGI-MODEM; SF_ID: WRL-09411
footprint XTEND-DIGI-MODEM
pins: 1 GND (io), 2 VCC (io), 3 GPO2 (io), 4 TX_PWR (io), 5 DI (io), 6 DO (io), 7 SHDN (io), 8 SLEEP (io), 9 CTS (io), 10 RTS (io), 11 CONFIG (io)